# EAGLE library part TS4231 (library TS4231)
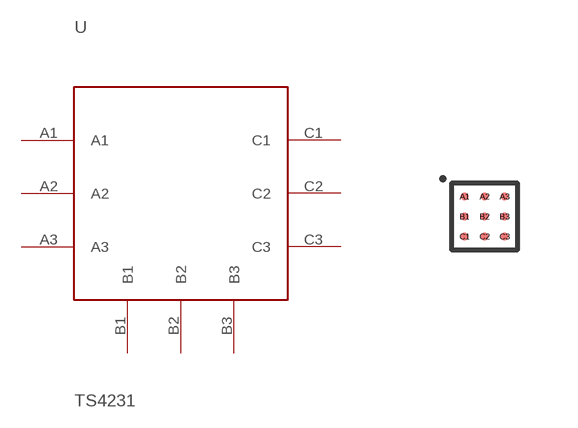
[diagram p0: symbol with the pads of TS4231; footprint TS4231]

Designator prefix -

## TS4231  [TS4231]
A1  A1
A2  A2
A3  A3
B1  B1
B2  B2
B3  B3
C1  C1
C2  C2
C3  C3

## Footprint TS4231 (pad centres in mm)
TS4231
smd 0.2 x 0.2: A1 1.27,3.81; A2 1.77,3.81; A3 2.27,3.81; B1 1.27,3.31; B2 1.77,3.31; B3 2.27,3.31; C1 1.27,2.81; C2 1.77,2.81; C3 2.27,2.81